# EAGLE library part DF11CZ-20DP-2V(27) (library connectors)
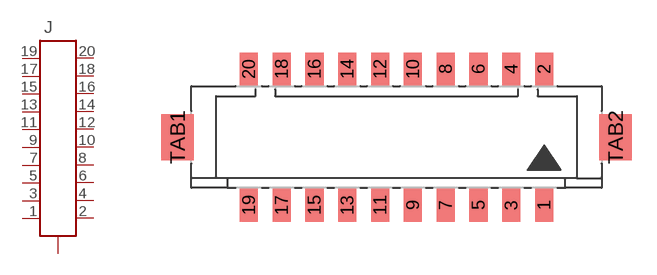
[diagram p6: symbol with the pads of DF11CZ-20DP; footprint DF11CZ-20DP]

Designator prefix J

## DF11CZ-20DP-2V(27)  [DF11CZ-20DP]
1  1
2  2
3  3
4  4
5  5
6  6
7  7
8  8
9  9
10  10
11  11
12  12
13  13
14  14
15  15
16  16
17  17
18  18
19  19
20  20
TAB1  TAB
TAB2  TAB

## Footprint DF11CZ-20DP (pad centres in mm)
smd 1.1 x 2: 1 9,-4.15; 2 9,4.15; 3 7,-4.15; 4 7,4.15; 5 5,-4.15; 6 5,4.15; 7 3,-4.15; 8 3,4.15; 9 1,-4.15; 10 1,4.15; 11 -1,-4.15; 12 -1,4.15; 13 -3,-4.15; 14 -3,4.15; 15 -5,-4.15; 16 -5,4.15; 17 -7,-4.15; 18 -7,4.15; 19 -9,-4.15; 20 -9,4.15
smd 2 x 2.8: TAB1 -13.35,0; TAB2 13.35,0